# Altium footprint library PLS-1.PcbLib: 1 footprints
Each footprint in its own frame and in the unit in brackets; x right, y up, seen from the top. Pads: shape width x height; smd on the part's side, far side on the other; paste and mask are expansions set on the pad; w line width, h text height; cw(c..) or ccw(c..) is an arc to the next point about the centre after c.
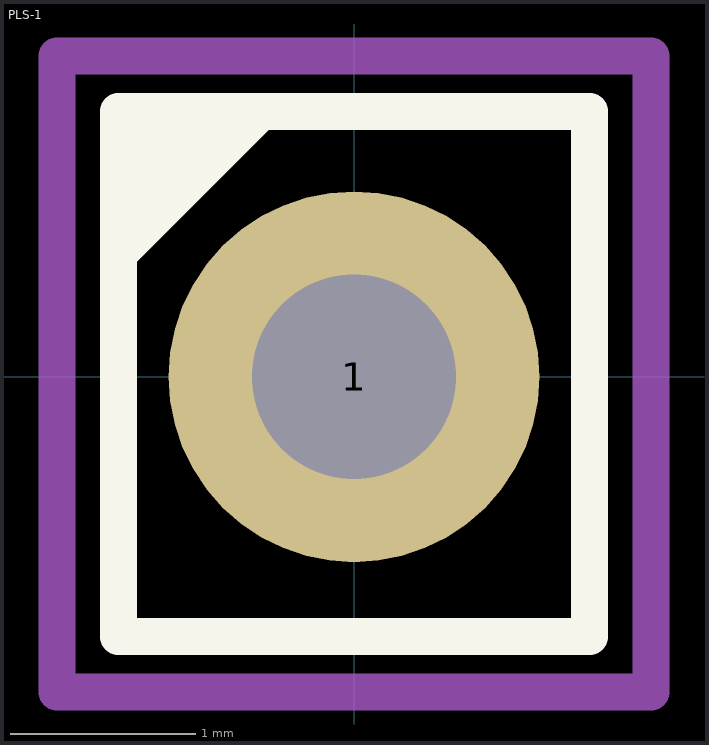
[diagram p0: the footprint, top view; thin cyan lines are the x and y axes]

## PLS-1 [mm] "2.54mm 1 pin male"
height 5
pads (1):
  round 2 hole 1.1: 1(0,0)
Top Overlay:
  region: -1.23,1.46 -1.23,0.56 -0.33,1.46
  lines w0.2: -1.27,-1.4 -1.27,1.43 1.27,1.43 1.27,-1.4 -1.27,-1.4
Mechanical 9:
  lines w0.2: -0.5,0.03 0.5,0.03 ; 0,-0.47 0,0.53
Top Assembly:
  lines w0.2: -1.27,-1.4 -1.27,1.43 1.27,1.43 1.27,-1.4 -1.27,-1.4
Top Courtyard:
  lines w0.2: -1.6,-1.7 -1.6,1.73 1.6,1.73 1.6,-1.7 -1.6,-1.7
3D body "PLS-1.step": height 8.6, standoff -3, extent -1.27,-1.27 1.27,1.27